# Altium schematic symbol library MOSFET.SchLib: 14 symbols
Pins are listed as number, name and electrical type; pins without a type are passive.

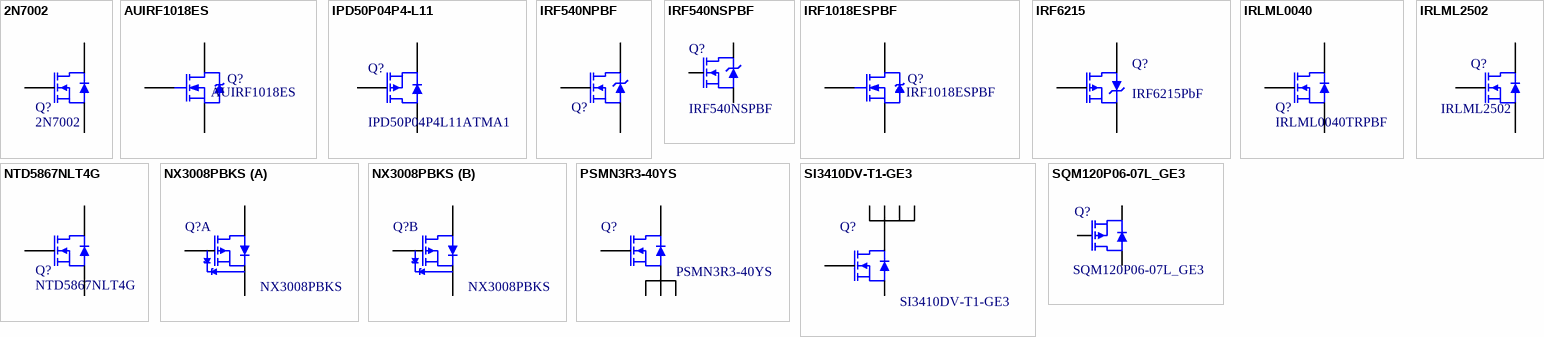
[diagram p0: symbols 2N7002 to SQM120P06-07L_GE3]

## 2N7002
designator Q?
MOSFET N 60V 115MA SOT-23; Manufacturer: Changjiang Electronics Tech (CJ); Manufacturer Part Number: 2N7002; ComponentLink1Description: Datasheet; ComponentLink1URL: https://datasheet.lcsc.com/szlcsc/1810151612_Changjiang-Electronics-Tech-CJ-2N7002_C8545.pdf; Supplier 2: JLCPCB; Supplier Part Number 2: C8545; Supplier 1: Farnell; Supplier Part Number 1: 1510761
footprint SOT-23
pins: 1 G, 2 S, 3 D

## AUIRF1018ES
designator Q?
MOSFET N 60V 79A D2PAK; Manufacturer: Infineon Technologies; Supplier 1: Farnell; Manufacturer Part Number: AUIRF1018ES; ComponentLink1URL: http://www.irf.com/product-info/datasheets/data/auirf1018es.pdf; ComponentLink1Description: Datasheet; Supplier Part Number 1: 2148048
footprint D2Pak / AAVID 7109DG (D2-PAK; 3 Leads (1 Cropped); Body 15.2 (inc. leads) x 10.9 mm (LxW max))
pins: 1 G, 2 D, 3 S

## IPD50P04P4-L11
designator Q?, comment IPD50P04P4L11ATMA1
MOSFET P 40V 50A DPAK; Manufacturer: INFINEON; Supplier 1: Farnell; Supplier Part Number 1: 2443434; Manufacturer Part Number: IPD50P04P4L11ATMA1; ComponentLink1Description: Datasheet; ComponentLink1URL: http://www.farnell.com/datasheets/1942428.pdf
footprint DPAK
pins: 1 G, 2 S, 4 D

## IRF540NPBF
designator Q?  (value not drawn)
MOSFET N 100V 33A TO220; Manufacturer: INTERNATIONAL RECTIFIER; Value: 100V-33A; Supplier 1: Farnell; Supplier Part Number 1: 8648298; Manufacturer Part Number: IRF540NPBF; Pricing 1: 1=1.22, 25=1.06, 100=0.906, 250=0.796, 1000=0.614 (EUR); ComponentLink1URL: http://www.irf.com/product-info/models/SPICE/irf540n.spi; ComponentLink1Description: http://www.irf.com/product-info/models/SPICE/irf540n.spi
footprint TO-220AB
pins: 1 G, 2 D, 3 S

## IRF540NSPBF
designator Q?
MOSFET N 100V 33A D2PAK; Manufacturer: INTERNATIONAL RECTIFIER; Value: 100V-33A; Manufacturer Part Number: IRF540NSPBF; ComponentLink1URL: http://www.irf.com/product-info/models/SPICE/irf540n.spi; ComponentLink1Description: http://www.irf.com/product-info/models/SPICE/irf540n.spi; Supplier 1: Farnell; Supplier Part Number 1: 8648301; Pricing 1: 1=2.17, 25=1.39, 100=1.01, 250=0.887, 1000=0.706, 2000=0.678, 5000=0.646, 9000=0.599 (EUR)
footprint TO263AB, D2PAK
pins: 1 G, 3 S, 4 D

## IRF1018ESPBF
designator Q?
MOSFET N 60V 79A D2PAK; Manufacturer: Infineon Technologies; Supplier 1: Farnell; Supplier Part Number 1: 1602225; Manufacturer Part Number: IRF1018ESPBF; ComponentLink1URL: http://www.irf.com/product-info/datasheets/data/irf1018epbf.pdf; ComponentLink1Description: Datasheet
footprint D2Pak / AAVID 7109DG (D2-PAK; 3 Leads (1 Cropped); Body 15.2 (inc. leads) x 10.9 mm (LxW max))
pins: 1 G, 2 D, 3 S

## IRF6215
designator Q?, comment IRF6215PbF
MOSFET P 150V 13A TO-220; Manufacturer: Infineon; ComponentLink1Description: datasheet; ComponentLink1URL: https://www.infineon.com/dgdl/irf6215pbf.pdf?fileId=5546d462533600a4015355e44ca219d0; Manufacturer Part Number: IRF6215PbF; Supplier 1: Farnell; Supplier Part Number: 1013514
footprint TO-220AB
pins: 1 G, 2 D, 3 S

## IRLML0040
designator Q?, comment IRLML0040TRPBF
MOSFET N 40V 3.6A SOT23; Manufacturer: INTERNATIONAL RECTIFIER; Supplier 1: Farnell; Supplier Part Number 1: 1831088; Manufacturer Part Number: IRLML0040TRPBF; ComponentLink1Description: http://www.irf.com/product-info/datasheets/data/irlml0040pbf.pdf; ComponentLink1URL: http://www.irf.com/product-info/datasheets/data/irlml0040pbf.pdf
footprint SOT-23
pins: 1 G, 2 S, 3 D

## IRLML2502
designator Q?
MOSFET N 20V 4.2A SOT23; Manufacturer 1: INTERNATIONAL RECTIFIER; Manufacturer Part Number: IRLML2502PBF; ComponentLink1Description: Datasheet; ComponentLink1URL: http://www.farnell.com/datasheets/1912230.pdf; Supplier 1: Farnell; Supplier Part Number 1: 9102981
footprint SOT-23
pins: 1 G, 2 S, 3 D

## NTD5867NLT4G
designator Q?
MOSFET N 60V 20A DPAK; Manufacturer: ON SEMICONDUCTOR; Supplier 1: Farnell; Supplier Part Number 1: 1879964; Manufacturer Part Number: NTD5867NLT4G; ComponentLink1Description: Datasheet; ComponentLink1URL: http://www.onsemi.com/pub_link/Collateral/NTD5867NL-D.PDF
footprint DPAK
pins: 1 G, 2 S, 4 D

## NX3008PBKS
designator Q?
MOSFET P DUAL 30V 200MA SOT363; Manufacturer: NEXPERIA; Supplier: Farnell; Manufacturer Part Number: NX3008PBKS; Supplier Part Number: 2069548; ComponentLink1URL: http://www.farnell.com/datasheets/1508395.pdf; ComponentLink1Description: http://www.farnell.com/datasheets/1508395.pdf
footprint SOT65P210X110-6N (SOT23, 6-Leads, Body 2,00x2,10mm, Pitch 0,65mm, IPC Medium Density)
part A pins: 1 S1, 2 G1, 6 D1
part B pins: 3 D2, 4 S2, 5 G2

## PSMN3R3-40YS
designator Q?
MOSFET N 40V 100A LFPAK; Manufacturer: NEXPERIA; Manufacturer Part Number: PSMN3R3-40YS; ComponentLink1URL: http://www.farnell.com/datasheets/1230735.pdf; ComponentLink1Description: Datasheet; Pricing: 1=0.498, 25=0.488, 100=0.486, 250=0.476, 500=0.467, 3000=0.457, 7000=0.447, 20000=0.437 (EUR); Supplier 1: Farnell; Supplier Part Number 1: 1845655
footprint LFPAK (SOT669) (SOT669 (wave soldering) https://goo.gl/6IFySL)
pins: 1 S, 2 S, 3 S, 4 G, 5 D

## SI3410DV-T1-GE3
designator Q?
MOSFET N 30V 8A 6-TSOP; Manufacturer: Vishay Siliconix; Supplier 1: Farnell; Supplier Part Number 1: 2454803; Manufacturer Part Number: SI3410DV-T1-GE3; ComponentLink1URL: http://www.vishay.com/docs/69254/si3410dv.pdf; ComponentLink1Description: Datasheet
footprint TSOP95P280X110-6N (TSOP, 6-Leads, Body 3,03x1,63mm, Pitch 0,95mm, IPC Medium Density)
pins: 1 D, 2 D, 3 G, 4 S, 5 D, 5 D, 6 D

## SQM120P06-07L_GE3
designator Q?
MOSFET P 60V 120A D2PAK; Manufacturer: VISHAY; Manufacturer Part Number: SQM120P06-07L_GE3; ComponentLink1Description: Datasheet; ComponentLink1URL: http://www.vishay.com/docs/67026/sqm120p0.pdf; Supplier 1: Farnell; Supplier Part Number 1: 2617099
footprint TO263AB, D2PAK
pins: 1 G, 3 S, 4 D